# EAGLE library part TLW-110-06-T-S (library SAMTEC-Txx_By_element14_Batch_1)
CONNECTOR HEADER, 10 WAY, 1ROW
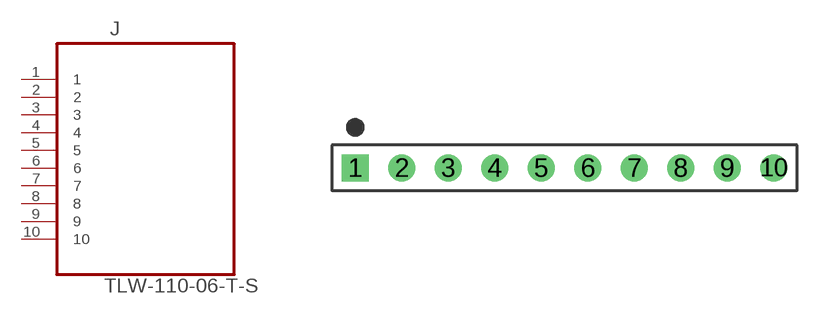
[diagram p179: symbol with the pads of SAMTEC_TLW-110-06-T-S; footprint SAMTEC_TLW-110-06-T-S]

Designator prefix J

## TLW-110-06-T-S (MPN: TLW-110-06-T-S; OC_FARNELL: -; OC_NEWARK: 64M0208; PACKAGE: CONN HEADER 10 POS .100 inch; SUPPLIER: SAMTEC)  [SAMTEC_TLW-110-06-T-S]
1  1  pas
2  2  pas
3  3  pas
4  4  pas
5  5  pas
6  6  pas
7  7  pas
8  8  pas
9  9  pas
10  10  pas

## Footprint SAMTEC_TLW-110-06-T-S (pad centres in mm)
drill 0.965 square: 1 -22.86,0
drill 0.965: 2 -20.32,0; 3 -17.78,0; 4 -15.24,0; 5 -12.7,0; 6 -10.16,0; 7 -7.62,0; 8 -5.08,0; 9 -2.54,0; 10 0,0